# Altium footprint library PcbLib1.PcbLib: 36 footprints (part 2 of 3)
Each footprint in its own frame and in the unit in brackets; x right, y up, seen from the top. Pads: shape width x height; smd on the part's side, far side on the other; paste and mask are expansions set on the pad; w line width, h text height; cw(c..) or ccw(c..) is an arc to the next point about the centre after c.
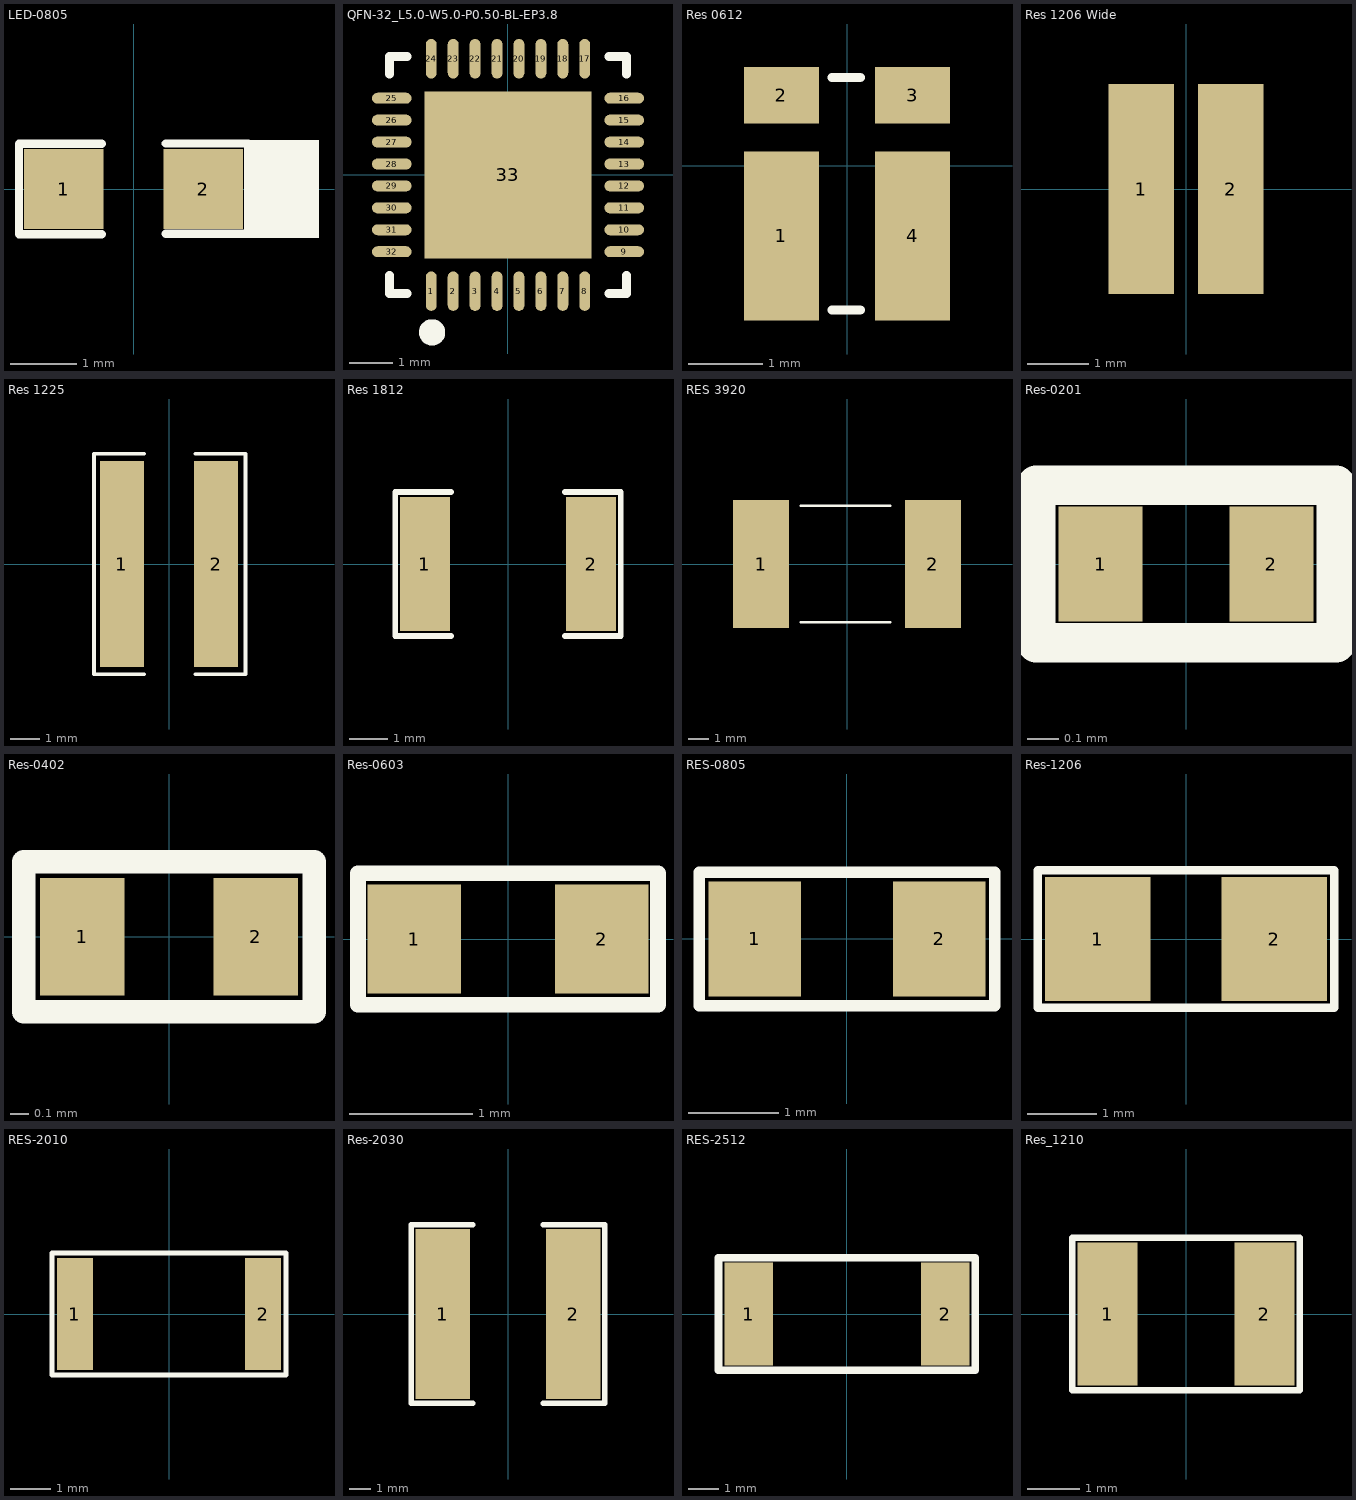
[diagram p1: the footprints below, top view; thin cyan lines are the x and y axes]

## LED-0805 [mm]
pads (2):
  rect 1.2x1.2 smd: 1(-1.05,0) 2(1.05,0)
Top Overlay:
  rectangle: 1.731,-0.737 2.794,0.737
  lines w0.127: -0.479,-0.681 -1.727,-0.681 -1.727,0.681 -0.479,0.681 ; 0.483,-0.677 1.731,-0.677 1.731,0.686 0.483,0.686
3D body "everlight-17-21-0805LED-YELLOW.STEP": height 1.1, standoff -0.01, extent -1,-0.625 1,0.625

## QFN-32_L5.0-W5.0-P0.50-BL-EP3.8 [mm]
pads (33):
  oval 0.25x0.9 smd paste-100 mask+0.05: 1(-1.75,-2.65) 2(-1.25,-2.65) 3(-0.749,-2.65) 4(-0.249,-2.65) 5(0.249,-2.65) 6(0.749,-2.65) 7(1.25,-2.65) 8(1.75,-2.65) 17(1.75,2.65) 18(1.25,2.65) 19(0.749,2.65) 20(0.249,2.65) 21(-0.249,2.65) 22(-0.749,2.65) 23(-1.25,2.65) 24(-1.75,2.65)
  oval 0.9x0.25 smd paste-100 mask+0.05: 9(2.65,-1.75) 10(2.65,-1.25) 11(2.65,-0.749) 12(2.65,-0.249) 13(2.65,0.249) 14(2.65,0.749) 15(2.65,1.25) 16(2.65,1.75) 25(-2.65,1.75) 26(-2.65,1.25) 27(-2.65,0.749) 28(-2.65,0.249) 29(-2.65,-0.249) 30(-2.65,-0.749) 31(-2.65,-1.25) 32(-2.65,-1.75)
  rect 3.8x3.8 smd paste-100 mask+0.05: 33(0,0)
Top Overlay:
  lines w0.2: -2.7,-2.295 -2.7,-2.7 -2.295,-2.7 ; -2.7,2.295 -2.7,2.7 -2.295,2.7 ; 2.295,-2.7 2.7,-2.7 2.7,-2.295 ; 2.295,2.7 2.7,2.7 2.7,2.295
  lines w0.3: -1.733,-3.44 ccw(c-1.732,-3.59) -1.732,-3.74 ccw(c-1.732,-3.59) -1.731,-3.44
Top Paste:
  drawing of 33 lines, arcs and shapes, not listed
3D body "3D_PCB_NEW_PCB_2024-02-19_2025-11-18.step": height 0.86, standoff 0.08, extent -2.478,-2.451 2.542,2.569

## Res 0612 [mil]
pads (4):
  rect 40x90 smd: 1(-35,-37.5) 4(35,-37.5)
  rect 40x30 smd: 2(-35,37.5) 3(35,37.5)
Top Overlay:
  lines w5: -8,-77 7,-77 ; -8,47 7,47
3D body "WSKW0612.stp": height 17.99, standoff 0, extent -29.53,-75.04 29.53,45.04

## Res 1206 Wide [mm]
pads (2):
  rect 1.06x3.42 smd: 1(-0.728,0) 2(0.728,0)
3D body "PRL1632-R010-F-T1.step": height 0.6, standoff 0, extent -0.8,-1.6 0.8,1.6

## Res 1225 [mm]
pads (2):
  rect 1.5x7 smd: 1(-1.6,0) 2(1.6,0)
Top Overlay:
  lines w0.127: -0.849,-3.75 -2.549,-3.75 -2.549,3.75 -0.849,3.75 ; 0.9,-3.75 2.6,-3.75 2.6,3.75 0.9,3.75
3D body "C3001870.step": height 0.55, standoff 0, extent -1.6,-3.2 1.6,3.2

## Res 1812 [mm]
pads (2):
  rect 1.283x3.456 smd paste-100 mask+0.051: 1(-2.141,0) 2(2.141,0)
Top Overlay:
  lines w0.152: -1.475,-1.854 -2.91,-1.854 -2.91,1.855 -1.475,1.855 ; 1.475,-1.854 2.91,-1.854 2.91,1.855 1.475,1.855
Top Paste:
  region: 1.5,-1.628 1.5,-0.688 1.6,-0.588 1.836,-0.588 1.936,-0.488 1.936,0.488 1.836,0.588 1.6,0.588 1.5,0.688 1.5,1.628 1.6,1.728 2.683,1.728 2.783,1.628 2.783,-1.628 2.683,-1.728 1.6,-1.728
  region: -1.5,-1.628 -1.5,-0.688 -1.6,-0.588 -1.836,-0.588 -1.936,-0.488 -1.936,0.488 -1.836,0.588 -1.6,0.588 -1.5,0.688 -1.5,1.628 -1.6,1.728 -2.683,1.728 -2.783,1.628 -2.783,-1.628 -2.683,-1.728 -1.6,-1.728
3D body "C2933911.step": height 2.21, standoff 1.6, extent -2.25,-1.6 2.25,1.6

## RES 3920 [mm]
pads (2):
  rect 2.7x6.2 smd: 1(-4.15,0) 2(4.15,0)
Top Overlay:
  lines w0.127: -2.235,-2.819 2.083,-2.819 ; -2.235,2.819 2.083,2.819
3D body "User Library-LRMAP3920.step": height 1.99, standoff -0.01, extent -5.46,-2.751 5.46,2.769

## Res-0201 [mm]
pads (2):
  rect 0.27x0.37 smd mask+0.055: 1(-0.275,0) 2(0.275,0)
Top Overlay:
  lines w0.127: -0.483,-0.254 0.483,-0.254 0.483,0.254 -0.483,0.254 -0.483,-0.254
3D body "User Library-0201(0603M) Res.step": height 0.29, standoff -0.02, extent -0.305,-0.152 0.305,0.153

## Res-0402 [mil]
pads (2):
  rect 18x25 smd mask+2.17: 1(-18.5,0) 2(18.5,0)
Top Overlay:
  lines w0.13: -32,-17 32,-17
  lines w5: -31,-16 -31,16 31,16 31,-16 -31,-16
3D body "User Library-RES_1005-0402.step": height 16.14, standoff 0, extent -22.63,-10.82 22.64,10.83

## Res-0603 [mil]
pads (2):
  rect 30x35 smd: 1(-30,0) 2(30,0)
Top Overlay:
  lines w5: -48,-21 -48,21 48,21 48,-21 -48,-21
3D body "User Library-RESC1608X05N.step": height 17.76, standoff 0, extent -30.52,-16.74 30.51,16.73

## RES-0805 [mil] "SMD 0805"
pads (2):
  rect 40x50 smd: 1(-40,0) 2(40,0)
Top Overlay:
  lines w5: -64,-29 -64,29 64,29 64,-29 -64,-29
3D body "User Library-CR2012-0805.STEP": height 23.62, standoff 0, extent -39.34,-24.75 39.4,24.46

## Res-1206 [mil]
pads (2):
  rect 60x70 smd: 1(-50,0) 2(50,0)
Top Overlay:
  lines w5: -84,-39 -84,39 84,39 84,-39 -84,-39
3D body "User Library-CR3216-1206.step": height 23.62, standoff 0, extent -62.99,-31.5 62.99,31.5

## RES-2010 [mm]
pads (2):
  rect 0.9x2.8 smd: 1(-2.35,0) 2(2.35,0)
Top Overlay:
  lines w0.127: -2.921,-1.524 2.921,-1.524 2.921,1.524 -2.921,1.524 -2.921,-1.524
3D body "User Library-R_2010.STEP": height 0.6, standoff 0, extent -2.5,-1.25 2.5,1.25

## Res-2030 [mm]
pads (2):
  rect 2.5x7.8 smd paste+0 mask+0.051: 1(-3,0) 2(3,0)
Top Overlay:
  lines w0.254: -1.626,-4.097 -4.448,-4.097 -4.448,4.097 -1.626,4.097 ; 1.626,-4.097 4.448,-4.097 4.448,4.097 1.626,4.097
3D body "C175634.step": height 1.2, standoff 0, extent -2.55,-3.8 2.55,3.8

## RES-2512 [mm]
pads (2):
  rect 1.6x3.4 smd: 1(-3.25,0) 2(3.25,0)
Top Overlay:
  lines w0.254: -4.242,-1.854 4.237,-1.854 4.237,1.854 -4.242,1.854 -4.242,-1.854
3D body "CircuitWorks-RESISTOR 2512.step": height 0.58, standoff -0.03, extent -3.175,-1.63 3.175,1.63

## Res_1210 [mm]
pads (2):
  rect 1.14x2.72 smd: 1(-1.49,0) 2(1.49,0)
Top Overlay:
  lines w0.127: -2.159,-1.448 -2.159,1.448 2.159,1.448 2.159,-1.448 -2.159,-1.448
3D body "ERJ-14YJ201U.STEP": height 0.7, standoff 0, extent -1.6,-1.25 1.6,1.25